# EAGLE library part SUBD (library Eagle-Lib)
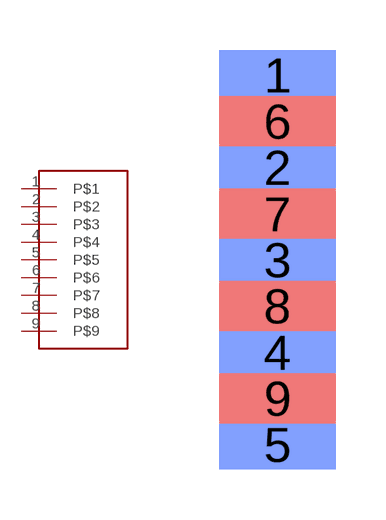
[diagram p0: symbol with the pads of SUBD; footprint SUBD]

Designator prefix -

## SUBD  [SUBD]
1  P$1
2  P$2
3  P$3
4  P$4
5  P$5
6  P$6
7  P$7
8  P$8
9  P$9

## Footprint SUBD (pad centres in mm)
smd 3.5 x 1.5 bottom: 1 -1,5.54; 2 -1,2.77; 3 -1,0; 4 -1,-2.77; 5 -1,-5.54
smd 3.5 x 1.5: 6 -1,4.155; 7 -1,1.385; 8 -1,-1.385; 9 -1,-4.155